# Altium schematic symbol library 691 321 100 0xx.SchLib: 6 symbols
Pins are listed as number, name and electrical type; pins without a type are passive.

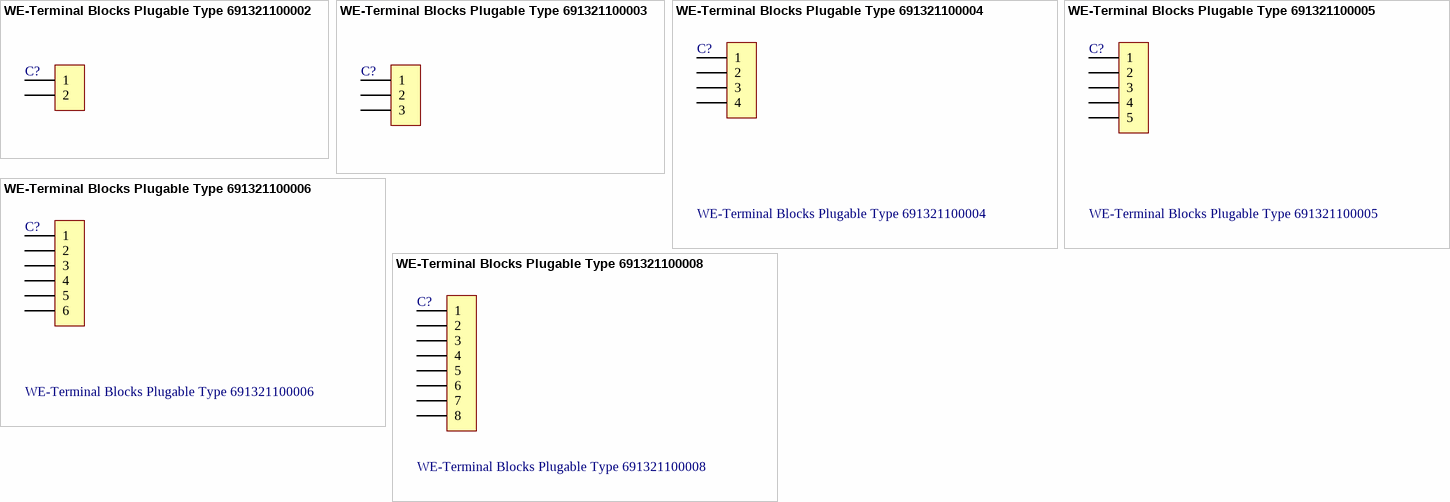
[diagram p0: symbols WE-Terminal Blocks Plugable Type 691321100002 to WE-Terminal Blocks Plugable Type 691321100008]

## WE-Terminal Blocks Plugable Type 691321100002
designator C?
WR-TBL Terminal block - serie 3211 - 3.50 mm; Manufacturer: Würth Elektronik eiSos GmbH; ComponentLink1 Description: Manufacturer; ComponentLink2 Description: Datasheet; NoPins: 2; Created Date: 9 December 2013; partNo: 691321100002; ComponentLink1URL: http://www.we-online.com; ComponentLink2URL: http://katalog.we-online.de/em/datasheet/6913211000xx.pdf; Created by: Karrer Zheng
footprint 691321100002 (3,50mm - PCB Vertical - 02p)
pins: 1, 2

## WE-Terminal Blocks Plugable Type 691321100003
designator C?
WR-TBL Terminal block - serie 3211 - 3.50 mm; Manufacturer: Würth Elektronik eiSos GmbH; ComponentLink1 Description: Manufacturer; ComponentLink2 Description: Datasheet; NoPins: 3; Created Date: 9 December 2013; partNo: 691321100003; ComponentLink1URL: http://www.we-online.com; ComponentLink2URL: http://katalog.we-online.de/em/datasheet/6913211000xx.pdf; Created by: Karrer Zheng
footprint 691321100003 (3,50mm - PCB Vertical - 03p)
pins: 1, 2, 3

## WE-Terminal Blocks Plugable Type 691321100004
designator C?
WR-TBL Terminal block - serie 3211 - 3.50 mm; Manufacturer: Würth Elektronik eiSos GmbH; ComponentLink1 Description: Manufacturer; ComponentLink2 Description: Datasheet; NoPins: 4; Created Date: 9 December 2013; partNo: 691321100004; ComponentLink1URL: http://www.we-online.com; ComponentLink2URL: http://katalog.we-online.de/em/datasheet/6913211000xx.pdf; Created by: Karrer Zheng
footprint 691321100004 (3,50mm - PCB Vertical - 04p)
pins: 1, 2, 3, 4

## WE-Terminal Blocks Plugable Type 691321100005
designator C?
WR-TBL Terminal block - serie 3211 - 3.50 mm; Manufacturer: Würth Elektronik eiSos GmbH; ComponentLink1 Description: Manufacturer; ComponentLink2 Description: Datasheet; NoPins: 5; Created Date: 9 December 2013; partNo: 691321100005; ComponentLink1URL: http://www.we-online.com; ComponentLink2URL: http://katalog.we-online.de/em/datasheet/6913211000xx.pdf; Created by: Karrer Zheng
footprint 691321100005 (3,50mm - PCB Vertical - 05p)
pins: 1, 2, 3, 4, 5

## WE-Terminal Blocks Plugable Type 691321100006
designator C?
WR-TBL Terminal block - serie 3211 - 3.50 mm; Manufacturer: Würth Elektronik eiSos GmbH; ComponentLink1 Description: Manufacturer; ComponentLink2 Description: Datasheet; NoPins: 6; Created Date: 9 December 2013; partNo: 691321100006; ComponentLink1URL: http://www.we-online.com; ComponentLink2URL: http://katalog.we-online.de/em/datasheet/6913211000xx.pdf; Created by: Karrer Zheng
footprint 691321100006 (3,50mm - PCB Vertical - 06p)
pins: 1, 2, 3, 4, 5, 6

## WE-Terminal Blocks Plugable Type 691321100008
designator C?
WR-TBL Terminal block - serie 3211 - 3.50 mm; Manufacturer: Würth Elektronik eiSos GmbH; ComponentLink1 Description: Manufacturer; ComponentLink2 Description: Datasheet; NoPins: 8; Created Date: 9 December 2013; partNo: 691321100008; ComponentLink1URL: http://www.we-online.com; ComponentLink2URL: http://katalog.we-online.de/em/datasheet/6913211000xx.pdf; Created by: Karrer Zheng
footprint 691321100008 (3,50mm - PCB Vertical - 08p)
pins: 1, 2, 3, 4, 5, 6, 7, 8